# EAGLE library part ESP32-WROOM-32D (library ESP32)
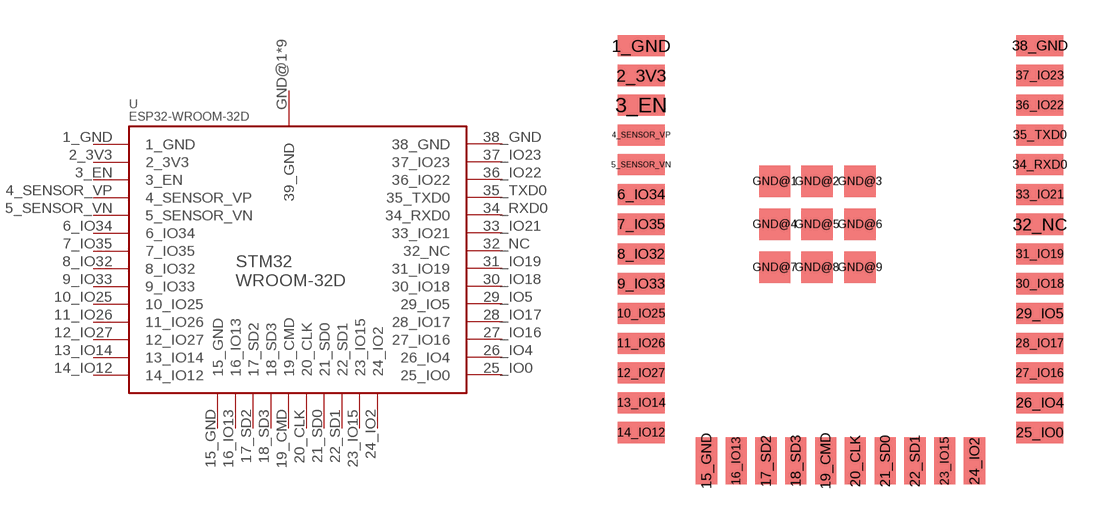
[diagram p0: symbol with the pads of ESP32-WROOM-32D; footprint ESP32-WROOM-32D]

Designator prefix U

## ESP32-WROOM-32D  [ESP32-WROOM-32D]
1_GND  1_GND
2_3V3  2_3V3
3_EN  3_EN
4_SENSOR_VP  4_SENSOR_VP
5_SENSOR_VN  5_SENSOR_VN
6_IO34  6_IO34
7_IO35  7_IO35
8_IO32  8_IO32
9_IO33  9_IO33
10_IO25  10_IO25
11_IO26  11_IO26
12_IO27  12_IO27
13_IO14  13_IO14
14_IO12  14_IO12
15_GND  15_GND
16_IO13  16_IO13
17_SD2  17_SD2
18_SD3  18_SD3
19_CMD  19_CMD
20_CLK  20_CLK
21_SD0  21_SD0
22_SD1  22_SD1
23_IO15  23_IO15
24_IO2  24_IO2
25_IO0  25_IO0
26_IO4  26_IO4
27_IO16  27_IO16
28_IO17  28_IO17
29_IO5  29_IO5
30_IO18  30_IO18
31_IO19  31_IO19
32_NC  32_NC
33_IO21  33_IO21
34_RXD0  34_RXD0
35_TXD0  35_TXD0
36_IO22  36_IO22
37_IO23  37_IO23
38_GND  38_GND
GND@1  39_GND
GND@2  39_GND
GND@3  39_GND
GND@4  39_GND
GND@5  39_GND
GND@6  39_GND
GND@7  39_GND
GND@8  39_GND
GND@9  39_GND

## Footprint ESP32-WROOM-32D (pad centres in mm)
smd 2 x 0.9: 1_GND -7.5,7.62; 2_3V3 -7.5,6.35; 3_EN -7.5,5.08; 4_SENSOR_VP -7.5,3.81; 5_SENSOR_VN -7.5,2.54; 6_IO34 -7.5,1.27; 7_IO35 -7.5,0; 8_IO32 -7.5,-1.27; 9_IO33 -7.5,-2.54; 10_IO25 -7.5,-3.81; 11_IO26 -7.5,-5.08; 12_IO27 -7.5,-6.35; 13_IO14 -7.5,-7.62; 14_IO12 -7.5,-8.89; 25_IO0 9.5,-8.89; 26_IO4 9.5,-7.62; 27_IO16 9.5,-6.35; 28_IO17 9.5,-5.08; 29_IO5 9.5,-3.81; 30_IO18 9.5,-2.54; 31_IO19 9.5,-1.27; 32_NC 9.5,0; 33_IO21 9.5,1.27; 34_RXD0 9.5,2.54; 35_TXD0 9.5,3.81; 36_IO22 9.5,5.08; 37_IO23 9.5,6.35; 38_GND 9.5,7.62
smd 0.9 x 2: 15_GND -4.715,-10.1; 16_IO13 -3.445,-10.1; 17_SD2 -2.175,-10.1; 18_SD3 -0.905,-10.1; 19_CMD 0.365,-10.1; 20_CLK 1.635,-10.1; 21_SD0 2.905,-10.1; 22_SD1 4.175,-10.1; 23_IO15 5.445,-10.1; 24_IO2 6.715,-10.1
smd 1.33 x 1.33: GND@1 -1.8,1.835; GND@2 0,1.835; GND@3 1.835,1.835; GND@4 -1.8,0; GND@5 0,0; GND@6 1.835,0; GND@7 -1.8,-1.835; GND@8 0,-1.835; GND@9 1.835,-1.835